# Altium footprint library Laser Controller.PcbLib: 41 footprints (part 3 of 3)
Each footprint in its own frame and in the unit in brackets; x right, y up, seen from the top. Pads: shape width x height; smd on the part's side, far side on the other; paste and mask are expansions set on the pad; w line width, h text height; cw(c..) or ccw(c..) is an arc to the next point about the centre after c.
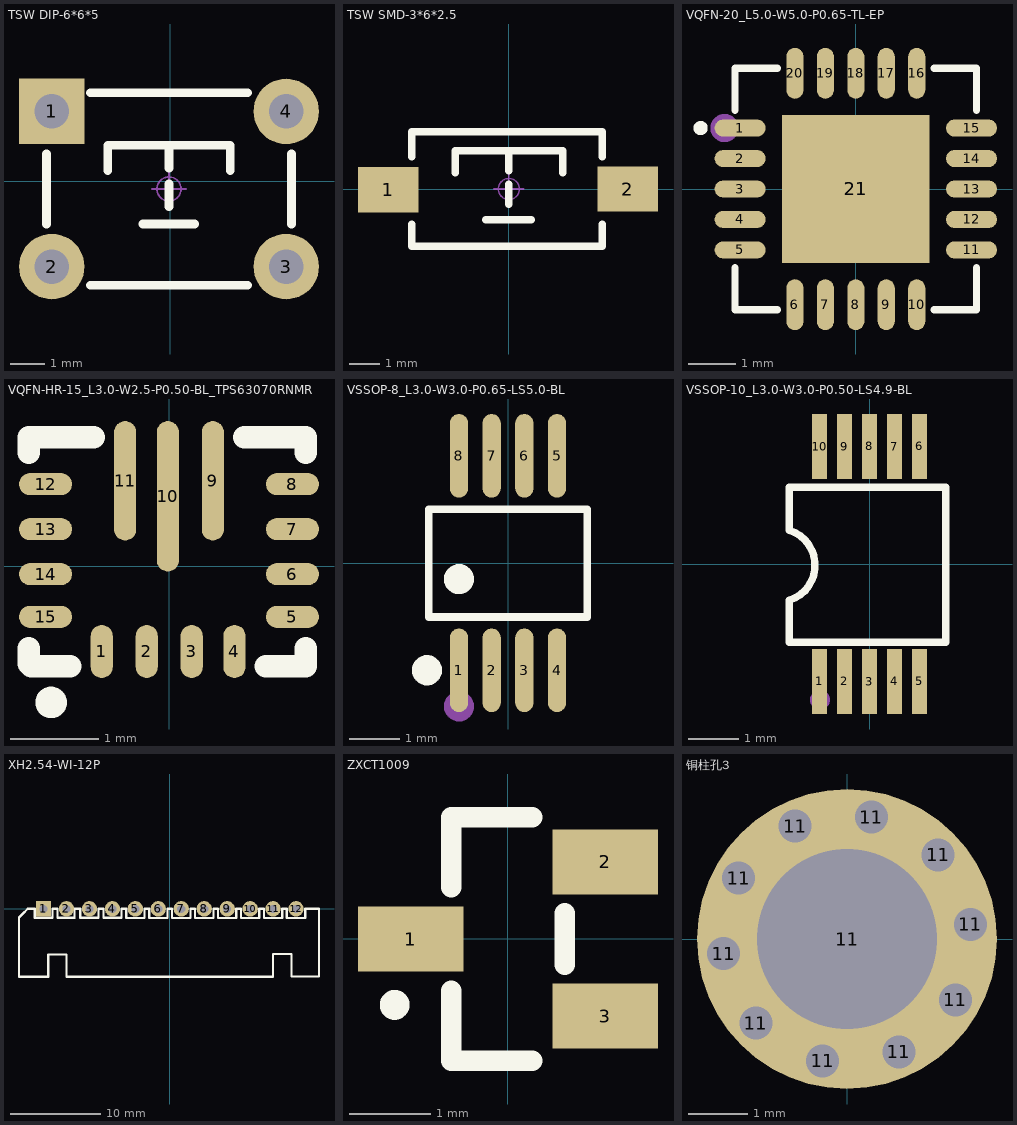
[diagram p2: the footprints below, top view; thin cyan lines are the x and y axes]

## TSW DIP-6*6*5 [mm]
pads (4):
  rect 1.9x1.9 hole 1: 1(-3.429,2.032)
  round 1.9 hole 1: 2(-3.429,-2.468) 3(3.371,-2.468) 4(3.371,2.032)
Top Overlay:
  lines w0.254: -3.585,-1.234 -3.585,0.798 ; -2.315,-3.012 2.257,-3.012 ; -2.315,2.576 2.257,2.576 ; -1.807,0.315 -1.807,1.052 1.749,1.052 1.749,0.315 ; -0.791,-1.234 0.708,-1.234 ; -0.029,-0.726 -0.029,-0.066 ; -0.029,0.392 -0.029,1.052 ; 3.527,-1.234 3.527,0.798
Bottom Overlay:
  lines w0.254: -2.315,-2.504 2.257,-2.504 ; -2.315,2.068 2.257,2.068
Mechanical 15:
  circle w0.05: c-0.029,-0.218 r0.35
  lines w0.05: -0.529,-0.218 0.471,-0.218 ; -0.029,-0.718 -0.029,0.282

## TSW SMD-3*6*2.5 [mm] "3*6*2.5mm"
pads (2):
  rect 2x1.5 smd: 1(-3.996,-0.02) 2(3.937,0)
Top Overlay:
  lines w0.254: -3.212,-1.168 -3.212,-1.9 3.088,-1.9 3.088,-1.168 ; -3.212,1.067 -3.212,1.9 3.088,1.9 3.088,1.067 ; -1.778,0.533 -1.778,1.27 1.778,1.27 1.778,0.533 ; -0.762,-1.016 0.737,-1.016 ; 0,-0.508 0,0.152 ; 0,0.61 0,1.27
Mechanical 15:
  circle w0.05: c0,0 r0.35
  lines w0.05: -0.5,0 0.5,0 ; 0,-0.5 0,0.5
3D body "TSW SMD-3x6x2.5.STEP": height 2.59, standoff -0.03, extent -4,-1.877 4,1.623

## VQFN-20_L5.0-W5.0-P0.65-TL-EP [mm]
pads (21):
  oval 1.087x0.364 smd: 1(-2.469,1.3) 2(-2.469,0.65) 3(-2.468,0) 4(-2.468,-0.65) 5(-2.468,-1.3) 11(2.469,-1.3) 12(2.469,-0.65) 13(2.468,0) 14(2.468,0.65) 15(2.468,1.3)
  oval 0.364x1.087 smd: 6(-1.3,-2.469) 7(-0.65,-2.469) 8(0,-2.468) 9(0.65,-2.468) 10(1.3,-2.468) 16(1.3,2.469) 17(0.65,2.469) 18(0,2.468) 19(-0.65,2.468) 20(-1.3,2.468)
  rect 3.15x3.15 smd: 21(0,0)
Top Overlay:
  circle w0.153: c-3.312,1.3 r0.076
  lines w0.152: -2.576,-1.672 -2.576,-2.576 -1.673,-2.576 ; -2.576,1.673 -2.576,2.576 -1.673,2.576 ; 1.672,-2.576 2.576,-2.576 2.576,-1.672 ; 1.672,2.576 2.576,2.576 2.576,1.673
Mechanical 15:
  circle w0.3: c-2.8,1.3 r0.15

## VQFN-HR-15_L3.0-W2.5-P0.50-BL_TPS63070RNMR [mm]
pads (15):
  oval 0.25x0.599 smd: 1(-0.759,-0.964) 2(-0.251,-0.964) 3(0.257,-0.964) 4(0.739,-0.964)
  oval 0.599x0.25 smd: 5(1.394,-0.573) 6(1.394,-0.09) 7(1.394,0.418) 8(1.394,0.926) 12(-1.394,0.926) 13(-1.394,0.418) 14(-1.394,-0.09) 15(-1.394,-0.573)
  oval 0.25x1.349 smd: 9(0.495,0.964) 11(-0.495,0.964)
  oval 0.25x1.7 smd: 10(-0.013,0.789)
Top Overlay:
  circle w0.254: c-1.331,-1.54 r0.051
  lines w0.254: -1.585,-0.929 -1.585,-1.1 -1.553,-1.132 -1.116,-1.132 ; -1.585,1.282 -1.585,1.458 -0.851,1.458 ; 0.851,1.458 1.547,1.458 1.547,1.282 ; 1.095,-1.132 1.547,-1.132 1.547,-0.929

## VSSOP-8_L3.0-W3.0-P0.65-LS5.0-BL [mm]
pads (8):
  oval 0.364x1.662 smd: 1(-0.975,-2.131) 2(-0.325,-2.131) 3(0.325,-2.131) 4(0.975,-2.131) 5(0.975,2.131) 6(0.325,2.131) 7(-0.325,2.131) 8(-0.975,2.131)
Top Overlay:
  circle w0.3: c-0.975,-0.319 r0.15
  circle w0.3: c-1.609,-2.131 r0.15
  lines w0.152: -1.576,-1.071 -1.576,1.071 1.576,1.071 1.576,-1.071 -1.576,-1.071
Mechanical 15:
  circle w0.3: c-0.975,-2.85 r0.15

## VSSOP-10_L3.0-W3.0-P0.50-LS4.9-BL [mm]
pads (10):
  rect 0.3x1.3 smd: 1(-1,-2.35) 2(-0.5,-2.35) 3(0,-2.35) 4(0.5,-2.35) 5(1,-2.35) 6(1,2.35) 7(0.5,2.35) 8(0,2.35) 9(-0.5,2.35) 10(-1,2.35)
Top Overlay:
  lines w0.15: -1.603,-1.562 -1.603,-0.724 ccw(c-1.82,-0.026) -1.603,0.673 ; -1.603,0.698 -1.603,1.537 ; -1.578,-1.562 1.522,-1.562 ; -1.578,1.537 1.522,1.537 1.522,-1.564
Mechanical 15:
  circle w0.2: c-0.99,-2.718 r0.1

## XH2.54-WI-12P [mm] "接插件，12P"
pads (12):
  rect 1.7x1.7 hole 0.9: 1(-13.97,0)
  round 1.7 hole 0.9: 2(-11.43,0) 3(-8.89,0) 4(-6.35,0) 5(-3.81,0) 6(-1.27,0) 7(1.27,0) 8(3.81,0) 9(6.35,0) 10(8.89,0) 11(11.43,0) 12(13.97,0)
Top Overlay:
  lines w0.254: -10.536,0 -10.536,-0.988 -10.55,-1.002 -12.416,-1.002 -12.416,0 -12.988,0 -12.988,-0.982 -12.974,-0.996 -14.93,-0.996 -14.944,-0.982 -14.944,0 -15.72,0 -16.302,-0.582 -16.686,-0.966 -16.686,-7.502 -16.66,-7.528 -13.462,-7.528 -13.462,-5.058 -11.43,-5.058 -11.43,-7.502 11.43,-7.502 11.43,-5.006 13.462,-5.006 13.462,-7.49 16.51,-7.49 16.51,0 14.986,0 14.986,-1.016 12.954,-1.016 12.954,0 12.446,0 12.446,-1.016 10.414,-1.016 10.414,0 9.906,0 9.906,-1.016 7.874,-1.016 7.874,0 7.366,0 7.366,-1.016 5.334,-1.016 5.334,0 4.826,0 4.826,-1.016 2.794,-1.016 2.794,0 2.286,0 2.286,-1.016 0.254,-1.016 0.254,0 -0.254,0 -0.254,-1.016 -2.286,-1.016 -2.286,0 -2.794,0 -2.794,-1.016 -4.826,-1.016 -4.826,0 -5.334,0 -5.334,-1.002 -7.338,-1.002 -7.338,0 ; -10.524,0 -9.926,0 ; -9.912,-0.996 -9.912,0 ; -9.892,-0.996 -7.904,-0.996 -7.898,-0.99 -7.898,0 -7.352,0
3D body "XH2.54-12P_H.STEP": height 5.75, standoff -3.35, extent -16.47,-7.35 16.47,0.35

## ZXCT1009 [mm] "电流检测放大器"
pads (3):
  rect 1.3x0.8 smd: 1(-1.2,0) 2(1.2,0.95) 3(1.2,-0.95)
Top Overlay:
  circle w0.254: c-1.397,-0.813 r0.057
  lines w0.254: -0.7,-0.636 -0.7,-1.5 0.3,-1.5 ; -0.7,0.636 -0.7,1.5 0.3,1.5 ; 0.7,-0.314 0.7,0.314

## 铜柱孔3 [mil]
height 35.43
pads (11):
  round 23 hole 22: 11(-82.21,-9.67) 11(-72.19,40.5) 11(-60.83,-56.14) 11(-34.6,75.2) 11(-16.21,-81.17) 11(16.21,81.17) 11(34.6,-75.2) 11(60.83,56.14) 11(72.19,-40.5) 11(82.21,9.67)
  round 200 hole 120: 11(0,0)